# Altium schematic symbol library PLL Synthesizers and VCOs.SchLib: 183 symbols (part 13 of 15)
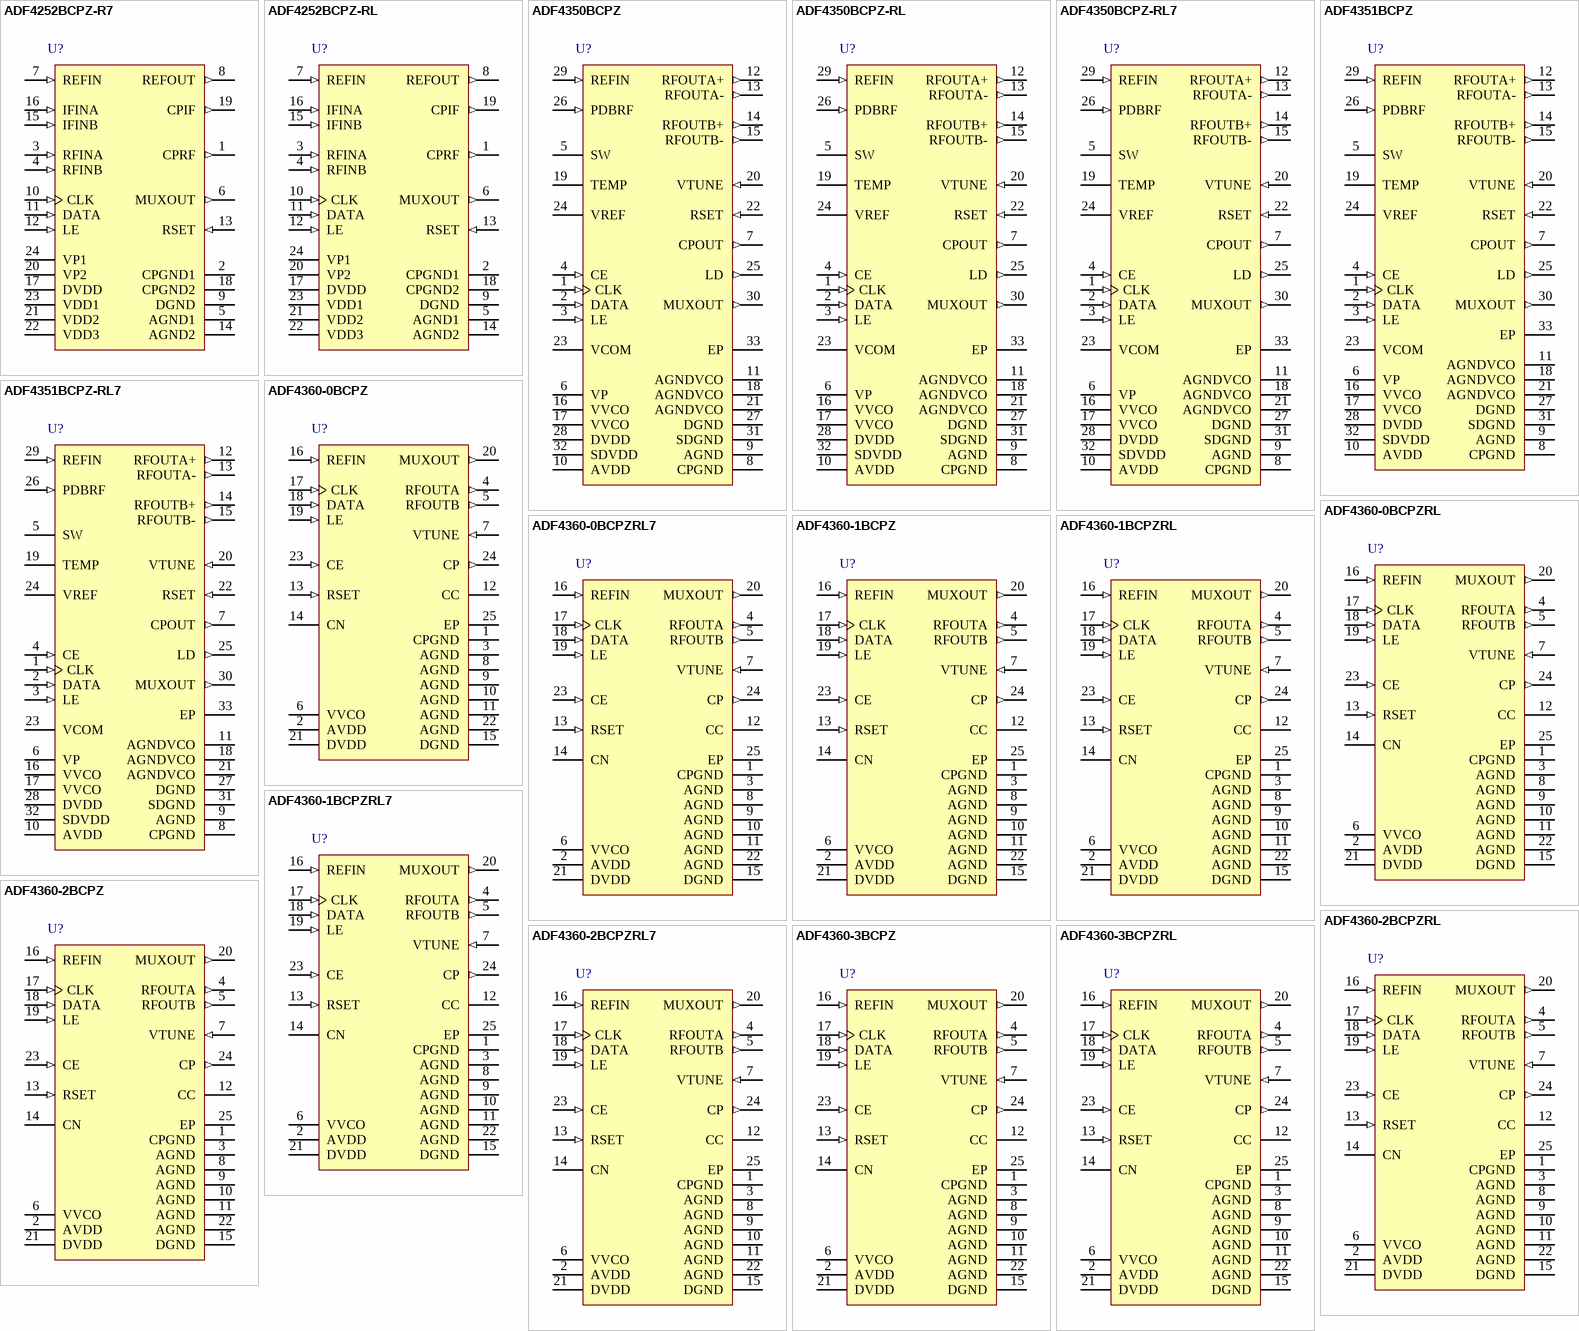
[diagram p20: symbols ADF4252BCPZ-R7 to ADF4360-3BCPZRL]

## ADF4360-0BCPZRL
designator U?
Integrated Synthesizer and VCO, CP-24-2, Pb-Free, 5000 Reel; Single/Dual: Single; Max RF Input (MHz): 2.725GHz; RF Prescalers: 16/17, 32/33, 8/9; Max REFin (MHz): 250MHz; Norm Phase Noise (dBc/Hz): -216dBc; Frequency Range: 2.45GHz-2.725GHz; Supply Current: 50mA; DatasheetVersion: Rev. A; PackageVersion: Jan-2005; PackageReference: CP-24-2; PackageDescription: 24-Lead Lead Frame Chip Scale Package [LFCSP_VQ]; Code_JEDEC: MO-220-VGGD-2; ComponentLink1Description: Manufacturer URL; ComponentLink1URL: www.analog.com; ComponentLink2Description: Datasheet; ComponentLink2URL: http://www.analog.com/static/imported-files/data_sheets/ADF4360-0.pdf; ComponentLink3Description: Package Specification; ComponentLink3URL: http://www.analog.com/static/imported-files/packages/588305704543880784658541CP_24_2.pdf
footprint ADI-CP-24-2_N (QFN, 24-Leads, Body 4x4mm, Pitch 0.5mm, Thermal Pad 2.3x2.3mm, IPC Medium Density)
footprint ADI-CP-24-2_L (QFN, 24-Leads, Body 4x4mm, Pitch 0.5mm, Thermal Pad 2.3x2.3mm, IPC High Density)
footprint ADI-CP-24-2_M (QFN, 24-Leads, Body 4x4mm, Pitch 0.5mm, Thermal Pad 2.3x2.3mm, IPC Low Density)
pins: 1 CPGND (power) "Charge Pump Ground. This is the ground return path for the charge pump.", 2 AVDD (power) "Analog Power Supply. This ranges from 3.0 V to 3.6 V. Decoupling capacitors to the analog ground plane should be placed as close as possible to this pin. [see datasheet]", 3 AGND (power) "Analog Ground. This is the ground return path of the prescaler and VCO.", 4 RFOUTA (out) "VCO Output. The output level is programmable from 0 dBm to -9 dBm. See the Output Matching section for a description of the various output stages.", 5 RFOUTB (out) "VCO Complementary Output. The output level is programmable from 0 dBm to -9 dBm. See the Output Matching section for a description of the various output stages.", 6 VVCO (power) "Power Supply for the VCO. This ranges from 3.0 V to 3.6 V. Decoupling capacitors to the analog ground plane should be placed as close as possible to this pin. [see datasheet]", 7 VTUNE (in) "Control Input to the VCO. This voltage determines the output frequency and is derived from filtering the CP output voltage.", 8 AGND (power) "Analog Ground. This is the ground return path of the prescaler and VCO.", 9 AGND (power) "Analog Ground. This is the ground return path of the prescaler and VCO.", 10 AGND (power) "Analog Ground. This is the ground return path of the prescaler and VCO.", 11 AGND (power) "Analog Ground. This is the ground return path of the prescaler and VCO.", 12 CC "Internal Compensation Node. This pin must be decoupled to ground with a 10 nF capacitor.", 13 RSET (in) "Connecting a resistor between this pin and CPGND sets the maximum charge pump output current for the synthesizer. The nominal voltage potential at the RSET pin is 0.6 V. [see datasheet]", 14 CN "Internal Compensation Node. This pin must be decoupled to VVCO with a 10 uF capacitor.", 15 DGND (power) "Digital Ground.", 16 REFIN (in) "Reference Input. This is a CMOS input with a nominal threshold of VDD/2 and a dc equivalent input resistance of 100 k ohm (see Figure 16). [see datasheet]", 17 CLK (in) "Serial Clock Input. This serial clock is used to clock in the serial data to the registers. The data is latched into the 24-bit shift register on the CLK rising edge. [see datasheet]", 18 DATA (in) "Serial Data Input. The serial data is loaded MSB first with the two LSBs being the control bits. This input is a high impedance CMOS input.", 19 LE (in) "Load Enable, CMOS Input. When LE goes high, the data stored in the shift registers is loaded into one of the four latches, and the relevant latch is selected using the control bits.", 20 MUXOUT (out) "This multiplexer output allows either the lock detect, the scaled RF, or the scaled reference frequency be accessed externally.", 21 DVDD (power) "Digital Power Supply. This ranges from 3.0 V to 3.6 V. Decoupling capacitors to the digital ground plane should be placed as close as possible to this pin. [see datasheet]", 22 AGND (power) "Analog Ground. This is the ground return path of the prescaler and VCO.", 23 CE (in) "Chip Enable. A logic low on this pin powers down the device and puts the charge pump into three-state mode. [see datasheet]", 24 CP (out) "Charge Pump Output. When enabled, this provides +/-ICP to the external loop filter, which in turn, drives the internal VCO.", 25 EP (power) "Exposed Pad."

## ADF4360-0BCPZRL7
designator U?
Integrated Synthesizer and VCO, CP-24-2, Pb-Free, 1500 Reel; Single/Dual: Single; Max RF Input (MHz): 2.725GHz; RF Prescalers: 16/17, 32/33, 8/9; Max REFin (MHz): 250MHz; Norm Phase Noise (dBc/Hz): -216dBc; Frequency Range: 2.45GHz-2.725GHz; Supply Current: 50mA; DatasheetVersion: Rev. A; PackageVersion: Jan-2005; PackageReference: CP-24-2; PackageDescription: 24-Lead Lead Frame Chip Scale Package [LFCSP_VQ]; Code_JEDEC: MO-220-VGGD-2; ComponentLink1Description: Manufacturer URL; ComponentLink1URL: www.analog.com; ComponentLink2Description: Datasheet; ComponentLink2URL: http://www.analog.com/static/imported-files/data_sheets/ADF4360-0.pdf; ComponentLink3Description: Package Specification; ComponentLink3URL: http://www.analog.com/static/imported-files/packages/588305704543880784658541CP_24_2.pdf
footprint ADI-CP-24-2_N (QFN, 24-Leads, Body 4x4mm, Pitch 0.5mm, Thermal Pad 2.3x2.3mm, IPC Medium Density)
footprint ADI-CP-24-2_L (QFN, 24-Leads, Body 4x4mm, Pitch 0.5mm, Thermal Pad 2.3x2.3mm, IPC High Density)
footprint ADI-CP-24-2_M (QFN, 24-Leads, Body 4x4mm, Pitch 0.5mm, Thermal Pad 2.3x2.3mm, IPC Low Density)
pins: 1 CPGND (power) "Charge Pump Ground. This is the ground return path for the charge pump.", 2 AVDD (power) "Analog Power Supply. This ranges from 3.0 V to 3.6 V. Decoupling capacitors to the analog ground plane should be placed as close as possible to this pin. [see datasheet]", 3 AGND (power) "Analog Ground. This is the ground return path of the prescaler and VCO.", 4 RFOUTA (out) "VCO Output. The output level is programmable from 0 dBm to -9 dBm. See the Output Matching section for a description of the various output stages.", 5 RFOUTB (out) "VCO Complementary Output. The output level is programmable from 0 dBm to -9 dBm. See the Output Matching section for a description of the various output stages.", 6 VVCO (power) "Power Supply for the VCO. This ranges from 3.0 V to 3.6 V. Decoupling capacitors to the analog ground plane should be placed as close as possible to this pin. [see datasheet]", 7 VTUNE (in) "Control Input to the VCO. This voltage determines the output frequency and is derived from filtering the CP output voltage.", 8 AGND (power) "Analog Ground. This is the ground return path of the prescaler and VCO.", 9 AGND (power) "Analog Ground. This is the ground return path of the prescaler and VCO.", 10 AGND (power) "Analog Ground. This is the ground return path of the prescaler and VCO.", 11 AGND (power) "Analog Ground. This is the ground return path of the prescaler and VCO.", 12 CC "Internal Compensation Node. This pin must be decoupled to ground with a 10 nF capacitor.", 13 RSET (in) "Connecting a resistor between this pin and CPGND sets the maximum charge pump output current for the synthesizer. The nominal voltage potential at the RSET pin is 0.6 V. [see datasheet]", 14 CN "Internal Compensation Node. This pin must be decoupled to VVCO with a 10 uF capacitor.", 15 DGND (power) "Digital Ground.", 16 REFIN (in) "Reference Input. This is a CMOS input with a nominal threshold of VDD/2 and a dc equivalent input resistance of 100 k ohm (see Figure 16). [see datasheet]", 17 CLK (in) "Serial Clock Input. This serial clock is used to clock in the serial data to the registers. The data is latched into the 24-bit shift register on the CLK rising edge. [see datasheet]", 18 DATA (in) "Serial Data Input. The serial data is loaded MSB first with the two LSBs being the control bits. This input is a high impedance CMOS input.", 19 LE (in) "Load Enable, CMOS Input. When LE goes high, the data stored in the shift registers is loaded into one of the four latches, and the relevant latch is selected using the control bits.", 20 MUXOUT (out) "This multiplexer output allows either the lock detect, the scaled RF, or the scaled reference frequency be accessed externally.", 21 DVDD (power) "Digital Power Supply. This ranges from 3.0 V to 3.6 V. Decoupling capacitors to the digital ground plane should be placed as close as possible to this pin. [see datasheet]", 22 AGND (power) "Analog Ground. This is the ground return path of the prescaler and VCO.", 23 CE (in) "Chip Enable. A logic low on this pin powers down the device and puts the charge pump into three-state mode. [see datasheet]", 24 CP (out) "Charge Pump Output. When enabled, this provides +/-ICP to the external loop filter, which in turn, drives the internal VCO.", 25 EP (power) "Exposed Pad."

## ADF4360-1BCPZ
designator U?
Integrated Synthesizer and VCO, CP-24-2, Pb-Free, 490 Tray; Single/Dual: Single; Max RF Input (MHz): 2.45GHz; RF Prescalers: 16/17, 32/33, 8/9; Max REFin (MHz): 250MHz; Norm Phase Noise (dBc/Hz): -216dBc; Frequency Range: 2050-2450 MHz; Supply Current: 48mA; DatasheetVersion: Rev. B; PackageVersion: Jan-2005; PackageReference: CP-24-2; PackageDescription: 24-Lead Lead Frame Chip Scale Package [LFCSP_VQ]; Code_JEDEC: MO-220-VGGD-2; ComponentLink1Description: Manufacturer URL; ComponentLink1URL: www.analog.com; ComponentLink2Description: Datasheet; ComponentLink2URL: http://www.analog.com/static/imported-files/data_sheets/ADF4360-1.pdf; ComponentLink3Description: Package Specification; ComponentLink3URL: http://www.analog.com/static/imported-files/packages/588305704543880784658541CP_24_2.pdf
footprint ADI-CP-24-2_N (QFN, 24-Leads, Body 4x4mm, Pitch 0.5mm, Thermal Pad 2.3x2.3mm, IPC Medium Density)
footprint ADI-CP-24-2_L (QFN, 24-Leads, Body 4x4mm, Pitch 0.5mm, Thermal Pad 2.3x2.3mm, IPC High Density)
footprint ADI-CP-24-2_M (QFN, 24-Leads, Body 4x4mm, Pitch 0.5mm, Thermal Pad 2.3x2.3mm, IPC Low Density)
pins: 1 CPGND (power) "Charge Pump Ground. This is the ground return path for the charge pump.", 2 AVDD (power) "Analog Power Supply. This ranges from 3.0 V to 3.6 V. Decoupling capacitors to the analog ground plane should be placed as close as possible to this pin. [see datasheet]", 3 AGND (power) "Analog Ground. This is the ground return path of the prescaler and VCO.", 4 RFOUTA (out) "VCO Output. The output level is programmable from -6 dBm to -13 dBm. See the Output Matching section for a description of the various output stages.", 5 RFOUTB (out) "VCO Complementary Output. The output level is programmable from -6 dBm to -13 dBm. See the Output Matching section for a description of the various output stages.", 6 VVCO (power) "Power Supply for the VCO. This ranges from 3.0 V to 3.6 V. Decoupling capacitors to the analog ground plane should be placed as close as possible to this pin. [see datasheet]", 7 VTUNE (in) "Control Input to the VCO. This voltage determines the output frequency and is derived from filtering the CP output voltage.", 8 AGND (power) "Analog Ground. This is the ground return path of the prescaler and VCO", 9 AGND (power) "Analog Ground. This is the ground return path of the prescaler and VCO", 10 AGND (power) "Analog Ground. This is the ground return path of the prescaler and VCO", 11 AGND (power) "Analog Ground. This is the ground return path of the prescaler and VCO", 12 CC "Internal Compensation Node. This pin must be decoupled to ground with a 10 nF capacitor.", 13 RSET (in) "Connecting a resistor between this pin and CPGND sets the maximum charge pump output current for the synthesizer.  [see datasheet]", 14 CN "Internal Compensation Node. This pin must be decoupled to VVCO with a 10 uF capacitor.", 15 DGND (power) "Digital Ground", 16 REFIN (in) "Reference Input. This is a CMOS input with a nominal threshold of VDD/2 and a dc equivalent input resistance of 100 k ohm. See Figure 10. [see datasheet]", 17 CLK (in) "Serial Clock Input. This serial clock is used to clock in the serial data to the registers. The data is latched into the 24-bit shift register on the CLK rising edge. [see datasheet]", 18 DATA (in) "Serial Data Input. The serial data is loaded MSB first with the two LSBs being the control bits. This input is a high impedance CMOS input.", 19 LE (in) "Load Enable, CMOS Input. When LE goes high, the data stored in the shift registers is loaded into one of the four latches, and the relevant latch is selected using the control bits.", 20 MUXOUT (out) "This multiplexer output allows either the lock detect, the scaled RF, or the scaled reference frequency to be accessed externally.", 21 DVDD (power) "Digital Power Supply. This ranges from 3.0 V to 3.6 V. Decoupling capacitors to the digital ground plane should be placed as close as possible to this pin. [see datasheet]", 22 AGND (power) "Analog Ground. This is the ground return path of the prescaler and VCO.", 23 CE (in) "Chip Enable. A logic low on this pin powers down the device and puts the charge pump into three-state mode. [see datasheet]", 24 CP (out) "Charge Pump Output. When enabled, this provides +/- ICP to the external loop filter, which in turn drives the internal VCO.", 25 EP (power) "Exposed pad"

## ADF4360-1BCPZRL
designator U?
Integrated Synthesizer and VCO, CP-24-2, Pb-Free, 5000 Reel; Single/Dual: Single; Max RF Input (MHz): 2.45GHz; RF Prescalers: 16/17, 32/33, 8/9; Max REFin (MHz): 250MHz; Norm Phase Noise (dBc/Hz): -216dBc; Frequency Range: 2050-2450 MHz; Supply Current: 48mA; DatasheetVersion: Rev. B; PackageVersion: Jan-2005; PackageReference: CP-24-2; PackageDescription: 24-Lead Lead Frame Chip Scale Package [LFCSP_VQ]; Code_JEDEC: MO-220-VGGD-2; ComponentLink1Description: Manufacturer URL; ComponentLink1URL: www.analog.com; ComponentLink2Description: Datasheet; ComponentLink2URL: http://www.analog.com/static/imported-files/data_sheets/ADF4360-1.pdf; ComponentLink3Description: Package Specification; ComponentLink3URL: http://www.analog.com/static/imported-files/packages/588305704543880784658541CP_24_2.pdf
footprint ADI-CP-24-2_N (QFN, 24-Leads, Body 4x4mm, Pitch 0.5mm, Thermal Pad 2.3x2.3mm, IPC Medium Density)
footprint ADI-CP-24-2_L (QFN, 24-Leads, Body 4x4mm, Pitch 0.5mm, Thermal Pad 2.3x2.3mm, IPC High Density)
footprint ADI-CP-24-2_M (QFN, 24-Leads, Body 4x4mm, Pitch 0.5mm, Thermal Pad 2.3x2.3mm, IPC Low Density)
pins: 1 CPGND (power) "Charge Pump Ground. This is the ground return path for the charge pump.", 2 AVDD (power) "Analog Power Supply. This ranges from 3.0 V to 3.6 V. Decoupling capacitors to the analog ground plane should be placed as close as possible to this pin. [see datasheet]", 3 AGND (power) "Analog Ground. This is the ground return path of the prescaler and VCO.", 4 RFOUTA (out) "VCO Output. The output level is programmable from -6 dBm to -13 dBm. See the Output Matching section for a description of the various output stages.", 5 RFOUTB (out) "VCO Complementary Output. The output level is programmable from -6 dBm to -13 dBm. See the Output Matching section for a description of the various output stages.", 6 VVCO (power) "Power Supply for the VCO. This ranges from 3.0 V to 3.6 V. Decoupling capacitors to the analog ground plane should be placed as close as possible to this pin. [see datasheet]", 7 VTUNE (in) "Control Input to the VCO. This voltage determines the output frequency and is derived from filtering the CP output voltage.", 8 AGND (power) "Analog Ground. This is the ground return path of the prescaler and VCO", 9 AGND (power) "Analog Ground. This is the ground return path of the prescaler and VCO", 10 AGND (power) "Analog Ground. This is the ground return path of the prescaler and VCO", 11 AGND (power) "Analog Ground. This is the ground return path of the prescaler and VCO", 12 CC "Internal Compensation Node. This pin must be decoupled to ground with a 10 nF capacitor.", 13 RSET (in) "Connecting a resistor between this pin and CPGND sets the maximum charge pump output current for the synthesizer.  [see datasheet]", 14 CN "Internal Compensation Node. This pin must be decoupled to VVCO with a 10 uF capacitor.", 15 DGND (power) "Digital Ground", 16 REFIN (in) "Reference Input. This is a CMOS input with a nominal threshold of VDD/2 and a dc equivalent input resistance of 100 k ohm. See Figure 10. [see datasheet]", 17 CLK (in) "Serial Clock Input. This serial clock is used to clock in the serial data to the registers. The data is latched into the 24-bit shift register on the CLK rising edge. [see datasheet]", 18 DATA (in) "Serial Data Input. The serial data is loaded MSB first with the two LSBs being the control bits. This input is a high impedance CMOS input.", 19 LE (in) "Load Enable, CMOS Input. When LE goes high, the data stored in the shift registers is loaded into one of the four latches, and the relevant latch is selected using the control bits.", 20 MUXOUT (out) "This multiplexer output allows either the lock detect, the scaled RF, or the scaled reference frequency to be accessed externally.", 21 DVDD (power) "Digital Power Supply. This ranges from 3.0 V to 3.6 V. Decoupling capacitors to the digital ground plane should be placed as close as possible to this pin. [see datasheet]", 22 AGND (power) "Analog Ground. This is the ground return path of the prescaler and VCO.", 23 CE (in) "Chip Enable. A logic low on this pin powers down the device and puts the charge pump into three-state mode. [see datasheet]", 24 CP (out) "Charge Pump Output. When enabled, this provides +/- ICP to the external loop filter, which in turn drives the internal VCO.", 25 EP (power) "Exposed pad"

## ADF4360-1BCPZRL7
designator U?
Integrated Synthesizer and VCO, CP-24-2, Pb-Free, 1500 Reel; Single/Dual: Single; Max RF Input (MHz): 2.45GHz; RF Prescalers: 16/17, 32/33, 8/9; Max REFin (MHz): 250MHz; Norm Phase Noise (dBc/Hz): -216dBc; Frequency Range: 2050-2450 MHz; Supply Current: 48mA; DatasheetVersion: Rev. B; PackageVersion: Jan-2005; PackageReference: CP-24-2; PackageDescription: 24-Lead Lead Frame Chip Scale Package [LFCSP_VQ]; Code_JEDEC: MO-220-VGGD-2; ComponentLink1Description: Manufacturer URL; ComponentLink1URL: www.analog.com; ComponentLink2Description: Datasheet; ComponentLink2URL: http://www.analog.com/static/imported-files/data_sheets/ADF4360-1.pdf; ComponentLink3Description: Package Specification; ComponentLink3URL: http://www.analog.com/static/imported-files/packages/588305704543880784658541CP_24_2.pdf
footprint ADI-CP-24-2_N (QFN, 24-Leads, Body 4x4mm, Pitch 0.5mm, Thermal Pad 2.3x2.3mm, IPC Medium Density)
footprint ADI-CP-24-2_L (QFN, 24-Leads, Body 4x4mm, Pitch 0.5mm, Thermal Pad 2.3x2.3mm, IPC High Density)
footprint ADI-CP-24-2_M (QFN, 24-Leads, Body 4x4mm, Pitch 0.5mm, Thermal Pad 2.3x2.3mm, IPC Low Density)
pins: 1 CPGND (power) "Charge Pump Ground. This is the ground return path for the charge pump.", 2 AVDD (power) "Analog Power Supply. This ranges from 3.0 V to 3.6 V. Decoupling capacitors to the analog ground plane should be placed as close as possible to this pin. [see datasheet]", 3 AGND (power) "Analog Ground. This is the ground return path of the prescaler and VCO.", 4 RFOUTA (out) "VCO Output. The output level is programmable from -6 dBm to -13 dBm. See the Output Matching section for a description of the various output stages.", 5 RFOUTB (out) "VCO Complementary Output. The output level is programmable from -6 dBm to -13 dBm. See the Output Matching section for a description of the various output stages.", 6 VVCO (power) "Power Supply for the VCO. This ranges from 3.0 V to 3.6 V. Decoupling capacitors to the analog ground plane should be placed as close as possible to this pin. [see datasheet]", 7 VTUNE (in) "Control Input to the VCO. This voltage determines the output frequency and is derived from filtering the CP output voltage.", 8 AGND (power) "Analog Ground. This is the ground return path of the prescaler and VCO", 9 AGND (power) "Analog Ground. This is the ground return path of the prescaler and VCO", 10 AGND (power) "Analog Ground. This is the ground return path of the prescaler and VCO", 11 AGND (power) "Analog Ground. This is the ground return path of the prescaler and VCO", 12 CC "Internal Compensation Node. This pin must be decoupled to ground with a 10 nF capacitor.", 13 RSET (in) "Connecting a resistor between this pin and CPGND sets the maximum charge pump output current for the synthesizer.  [see datasheet]", 14 CN "Internal Compensation Node. This pin must be decoupled to VVCO with a 10 uF capacitor.", 15 DGND (power) "Digital Ground", 16 REFIN (in) "Reference Input. This is a CMOS input with a nominal threshold of VDD/2 and a dc equivalent input resistance of 100 k ohm. See Figure 10. [see datasheet]", 17 CLK (in) "Serial Clock Input. This serial clock is used to clock in the serial data to the registers. The data is latched into the 24-bit shift register on the CLK rising edge. [see datasheet]", 18 DATA (in) "Serial Data Input. The serial data is loaded MSB first with the two LSBs being the control bits. This input is a high impedance CMOS input.", 19 LE (in) "Load Enable, CMOS Input. When LE goes high, the data stored in the shift registers is loaded into one of the four latches, and the relevant latch is selected using the control bits.", 20 MUXOUT (out) "This multiplexer output allows either the lock detect, the scaled RF, or the scaled reference frequency to be accessed externally.", 21 DVDD (power) "Digital Power Supply. This ranges from 3.0 V to 3.6 V. Decoupling capacitors to the digital ground plane should be placed as close as possible to this pin. [see datasheet]", 22 AGND (power) "Analog Ground. This is the ground return path of the prescaler and VCO.", 23 CE (in) "Chip Enable. A logic low on this pin powers down the device and puts the charge pump into three-state mode. [see datasheet]", 24 CP (out) "Charge Pump Output. When enabled, this provides +/- ICP to the external loop filter, which in turn drives the internal VCO.", 25 EP (power) "Exposed pad"

## ADF4360-2BCPZ
designator U?
Integrated Synthesizer and VCO, CP-24-2, Pb-Free, 490 Tray; Single/Dual: Single; Max RF Input (MHz): 2.17GHz; RF Prescalers: 16/17, 32/33, 8/9; Max REFin (MHz): 250MHz; Norm Phase Noise (dBc/Hz): -216dBc; Frequency Range: 1.85GHz-2.17GHz; Supply Current: 48mA; DatasheetVersion: Rev. B; PackageVersion: Jan-2005; PackageReference: CP-24-2; PackageDescription: 24-Lead Lead Frame Chip Scale Package [LFCSP_VQ]; Code_JEDEC: MO-220-VGGD-2; ComponentLink1Description: Manufacturer URL; ComponentLink1URL: www.analog.com; ComponentLink2Description: Datasheet; ComponentLink2URL: http://www.analog.com/static/imported-files/data_sheets/ADF4360-2.pdf; ComponentLink3Description: Package Specification; ComponentLink3URL: http://www.analog.com/static/imported-files/packages/588305704543880784658541CP_24_2.pdf
footprint ADI-CP-24-2_N (QFN, 24-Leads, Body 4x4mm, Pitch 0.5mm, Thermal Pad 2.3x2.3mm, IPC Medium Density)
footprint ADI-CP-24-2_L (QFN, 24-Leads, Body 4x4mm, Pitch 0.5mm, Thermal Pad 2.3x2.3mm, IPC High Density)
footprint ADI-CP-24-2_M (QFN, 24-Leads, Body 4x4mm, Pitch 0.5mm, Thermal Pad 2.3x2.3mm, IPC Low Density)
pins: 1 CPGND (power) "Charge Pump Ground. This is the ground return path for the charge pump.", 2 AVDD (power) "Analog Power Supply. This ranges from 3.0 V to 3.6 V. Decoupling capacitors to the analog ground plane", 3 AGND (power) "Analog Ground. This is the ground return path of the prescaler and VCO.", 4 RFOUTA (out) "VCO Output. The output level is programmable from -6 dBm to -13 dBm. See the Output Matching section for a description of the various output stages.", 5 RFOUTB (out) "VCO Complementary Output. The output level is programmable from -6 dBm to -13 dBm. See the Output Matching section for a description of the various output stages.", 6 VVCO (power) "Power Supply for the VCO. This ranges from 3.0 V to 3.6 V. Decoupling capacitors to the analog ground plane should be placed as close as possible to this pin. [see datasheet]", 7 VTUNE (in) "Control Input to the VCO. This voltage determines the output frequency and is derived from filtering the CP output voltage.", 8 AGND (power) "Analog Ground. This is the ground return path of the prescaler and VCO.", 9 AGND (power) "Analog Ground. This is the ground return path of the prescaler and VCO.", 10 AGND (power) "Analog Ground. This is the ground return path of the prescaler and VCO.", 11 AGND (power) "Analog Ground. This is the ground return path of the prescaler and VCO.", 12 CC "Internal Compensation Node. This pin must be decoupled to ground with a 10 nF capacitor.", 13 RSET (in) "Connecting a resistor between this pin and CPGND sets the maximum charge pump output current for the synthesizer. The nominal voltage potential at the RSET pin is 0.6 V. [see datasheet]", 14 CN "Internal Compensation Node. This pin must be decoupled to VVCO with a 10 uF capacitor.", 15 DGND (power) "Digital Ground.", 16 REFIN (in) "Reference Input. This is a CMOS input with a nominal threshold of VDD/2 and a dc equivalent input resistance of 100 k ohm. See Figure 10. [see datasheet]", 17 CLK (in) "Serial Clock Input. This serial clock is used to clock in the serial data to the registers. The data is latched into the 24-bit shift register on the CLK rising edge. [see datasheet]", 18 DATA (in) "Serial Data Input. The serial data is loaded MSB first with the two LSBs being the control bits. This input is a high impedance CMOS input.", 19 LE (in) "Load Enable, CMOS Input. When LE goes high, the data stored in the shift registers is loaded into one of the four latches, and the relevant latch is selected using the control bits.", 20 MUXOUT (out) "This multiplexer output allows either the lock detect, the scaled RF, or the scaled reference frequency to be accessed externally.", 21 DVDD (power) "Digital Power Supply. This ranges from 3.0 V to 3.6 V. Decoupling capacitors to the digital ground plane should be placed as close as possible to this pin. [see datasheet]", 22 AGND (power) "Analog Ground. This is the ground return path of the prescaler and VCO.", 23 CE (in) "Chip Enable. A logic low on this pin powers down the device and puts the charge pump into three-state mode. [see datasheet]", 24 CP (out) "Charge Pump Output. When enabled, this provides +/- ICP to the external loop filter, which in turn, drives the internal VCO.", 25 EP (power) "Exposed Pad."

## ADF4360-2BCPZRL
designator U?
Integrated Synthesizer and VCO, CP-24-2, Pb-Free, 5000 Reel; Single/Dual: Single; Max RF Input (MHz): 2.17GHz; RF Prescalers: 16/17, 32/33, 8/9; Max REFin (MHz): 250MHz; Norm Phase Noise (dBc/Hz): -216dBc; Frequency Range: 1.85GHz-2.17GHz; Supply Current: 48mA; DatasheetVersion: Rev. B; PackageVersion: Jan-2005; PackageReference: CP-24-2; PackageDescription: 24-Lead Lead Frame Chip Scale Package [LFCSP_VQ]; Code_JEDEC: MO-220-VGGD-2; ComponentLink1Description: Manufacturer URL; ComponentLink1URL: www.analog.com; ComponentLink2Description: Datasheet; ComponentLink2URL: http://www.analog.com/static/imported-files/data_sheets/ADF4360-2.pdf; ComponentLink3Description: Package Specification; ComponentLink3URL: http://www.analog.com/static/imported-files/packages/588305704543880784658541CP_24_2.pdf
footprint ADI-CP-24-2_N (QFN, 24-Leads, Body 4x4mm, Pitch 0.5mm, Thermal Pad 2.3x2.3mm, IPC Medium Density)
footprint ADI-CP-24-2_L (QFN, 24-Leads, Body 4x4mm, Pitch 0.5mm, Thermal Pad 2.3x2.3mm, IPC High Density)
footprint ADI-CP-24-2_M (QFN, 24-Leads, Body 4x4mm, Pitch 0.5mm, Thermal Pad 2.3x2.3mm, IPC Low Density)
pins: 1 CPGND (power) "Charge Pump Ground. This is the ground return path for the charge pump.", 2 AVDD (power) "Analog Power Supply. This ranges from 3.0 V to 3.6 V. Decoupling capacitors to the analog ground plane", 3 AGND (power) "Analog Ground. This is the ground return path of the prescaler and VCO.", 4 RFOUTA (out) "VCO Output. The output level is programmable from -6 dBm to -13 dBm. See the Output Matching section for a description of the various output stages.", 5 RFOUTB (out) "VCO Complementary Output. The output level is programmable from -6 dBm to -13 dBm. See the Output Matching section for a description of the various output stages.", 6 VVCO (power) "Power Supply for the VCO. This ranges from 3.0 V to 3.6 V. Decoupling capacitors to the analog ground plane should be placed as close as possible to this pin. [see datasheet]", 7 VTUNE (in) "Control Input to the VCO. This voltage determines the output frequency and is derived from filtering the CP output voltage.", 8 AGND (power) "Analog Ground. This is the ground return path of the prescaler and VCO.", 9 AGND (power) "Analog Ground. This is the ground return path of the prescaler and VCO.", 10 AGND (power) "Analog Ground. This is the ground return path of the prescaler and VCO.", 11 AGND (power) "Analog Ground. This is the ground return path of the prescaler and VCO.", 12 CC "Internal Compensation Node. This pin must be decoupled to ground with a 10 nF capacitor.", 13 RSET (in) "Connecting a resistor between this pin and CPGND sets the maximum charge pump output current for the synthesizer. The nominal voltage potential at the RSET pin is 0.6 V. [see datasheet]", 14 CN "Internal Compensation Node. This pin must be decoupled to VVCO with a 10 uF capacitor.", 15 DGND (power) "Digital Ground.", 16 REFIN (in) "Reference Input. This is a CMOS input with a nominal threshold of VDD/2 and a dc equivalent input resistance of 100 k ohm. See Figure 10. [see datasheet]", 17 CLK (in) "Serial Clock Input. This serial clock is used to clock in the serial data to the registers. The data is latched into the 24-bit shift register on the CLK rising edge. [see datasheet]", 18 DATA (in) "Serial Data Input. The serial data is loaded MSB first with the two LSBs being the control bits. This input is a high impedance CMOS input.", 19 LE (in) "Load Enable, CMOS Input. When LE goes high, the data stored in the shift registers is loaded into one of the four latches, and the relevant latch is selected using the control bits.", 20 MUXOUT (out) "This multiplexer output allows either the lock detect, the scaled RF, or the scaled reference frequency to be accessed externally.", 21 DVDD (power) "Digital Power Supply. This ranges from 3.0 V to 3.6 V. Decoupling capacitors to the digital ground plane should be placed as close as possible to this pin. [see datasheet]", 22 AGND (power) "Analog Ground. This is the ground return path of the prescaler and VCO.", 23 CE (in) "Chip Enable. A logic low on this pin powers down the device and puts the charge pump into three-state mode. [see datasheet]", 24 CP (out) "Charge Pump Output. When enabled, this provides +/- ICP to the external loop filter, which in turn, drives the internal VCO.", 25 EP (power) "Exposed Pad."

## ADF4360-2BCPZRL7
designator U?
Integrated Synthesizer and VCO, CP-24-2, Pb-Free, 1500 Reel; Single/Dual: Single; Max RF Input (MHz): 2.17GHz; RF Prescalers: 16/17, 32/33, 8/9; Max REFin (MHz): 250MHz; Norm Phase Noise (dBc/Hz): -216dBc; Frequency Range: 1.85GHz-2.17GHz; Supply Current: 48mA; DatasheetVersion: Rev. B; PackageVersion: Jan-2005; PackageReference: CP-24-2; PackageDescription: 24-Lead Lead Frame Chip Scale Package [LFCSP_VQ]; Code_JEDEC: MO-220-VGGD-2; ComponentLink1Description: Manufacturer URL; ComponentLink1URL: www.analog.com; ComponentLink2Description: Datasheet; ComponentLink2URL: http://www.analog.com/static/imported-files/data_sheets/ADF4360-2.pdf; ComponentLink3Description: Package Specification; ComponentLink3URL: http://www.analog.com/static/imported-files/packages/588305704543880784658541CP_24_2.pdf
footprint ADI-CP-24-2_N (QFN, 24-Leads, Body 4x4mm, Pitch 0.5mm, Thermal Pad 2.3x2.3mm, IPC Medium Density)
footprint ADI-CP-24-2_L (QFN, 24-Leads, Body 4x4mm, Pitch 0.5mm, Thermal Pad 2.3x2.3mm, IPC High Density)
footprint ADI-CP-24-2_M (QFN, 24-Leads, Body 4x4mm, Pitch 0.5mm, Thermal Pad 2.3x2.3mm, IPC Low Density)
pins: 1 CPGND (power) "Charge Pump Ground. This is the ground return path for the charge pump.", 2 AVDD (power) "Analog Power Supply. This ranges from 3.0 V to 3.6 V. Decoupling capacitors to the analog ground plane", 3 AGND (power) "Analog Ground. This is the ground return path of the prescaler and VCO.", 4 RFOUTA (out) "VCO Output. The output level is programmable from -6 dBm to -13 dBm. See the Output Matching section for a description of the various output stages.", 5 RFOUTB (out) "VCO Complementary Output. The output level is programmable from -6 dBm to -13 dBm. See the Output Matching section for a description of the various output stages.", 6 VVCO (power) "Power Supply for the VCO. This ranges from 3.0 V to 3.6 V. Decoupling capacitors to the analog ground plane should be placed as close as possible to this pin. [see datasheet]", 7 VTUNE (in) "Control Input to the VCO. This voltage determines the output frequency and is derived from filtering the CP output voltage.", 8 AGND (power) "Analog Ground. This is the ground return path of the prescaler and VCO.", 9 AGND (power) "Analog Ground. This is the ground return path of the prescaler and VCO.", 10 AGND (power) "Analog Ground. This is the ground return path of the prescaler and VCO.", 11 AGND (power) "Analog Ground. This is the ground return path of the prescaler and VCO.", 12 CC "Internal Compensation Node. This pin must be decoupled to ground with a 10 nF capacitor.", 13 RSET (in) "Connecting a resistor between this pin and CPGND sets the maximum charge pump output current for the synthesizer. The nominal voltage potential at the RSET pin is 0.6 V. [see datasheet]", 14 CN "Internal Compensation Node. This pin must be decoupled to VVCO with a 10 uF capacitor.", 15 DGND (power) "Digital Ground.", 16 REFIN (in) "Reference Input. This is a CMOS input with a nominal threshold of VDD/2 and a dc equivalent input resistance of 100 k ohm. See Figure 10. [see datasheet]", 17 CLK (in) "Serial Clock Input. This serial clock is used to clock in the serial data to the registers. The data is latched into the 24-bit shift register on the CLK rising edge. [see datasheet]", 18 DATA (in) "Serial Data Input. The serial data is loaded MSB first with the two LSBs being the control bits. This input is a high impedance CMOS input.", 19 LE (in) "Load Enable, CMOS Input. When LE goes high, the data stored in the shift registers is loaded into one of the four latches, and the relevant latch is selected using the control bits.", 20 MUXOUT (out) "This multiplexer output allows either the lock detect, the scaled RF, or the scaled reference frequency to be accessed externally.", 21 DVDD (power) "Digital Power Supply. This ranges from 3.0 V to 3.6 V. Decoupling capacitors to the digital ground plane should be placed as close as possible to this pin. [see datasheet]", 22 AGND (power) "Analog Ground. This is the ground return path of the prescaler and VCO.", 23 CE (in) "Chip Enable. A logic low on this pin powers down the device and puts the charge pump into three-state mode. [see datasheet]", 24 CP (out) "Charge Pump Output. When enabled, this provides +/- ICP to the external loop filter, which in turn, drives the internal VCO.", 25 EP (power) "Exposed Pad."

## ADF4360-3BCPZ
designator U?
Integrated Synthesizer and VCO, CP-24-2, Pb-Free, 490 Tray; Single/Dual: Single; Max RF Input (MHz): 1.95GHz; RF Prescalers: 16/17, 32/33, 8/9; Max REFin (MHz): 250MHz; Norm Phase Noise (dBc/Hz): -216dBc; Frequency Range: 1600-1950 MHz; Supply Current: 48mA; DatasheetVersion: Rev. B; PackageVersion: Jan-2005; PackageReference: CP-24-2; PackageDescription: 24-Lead Lead Frame Chip Scale Package [LFCSP_VQ]; Code_JEDEC: MO-220-VGGD-2; ComponentLink1Description: Manufacturer URL; ComponentLink1URL: www.analog.com; ComponentLink2Description: Datasheet; ComponentLink2URL: http://www.analog.com/static/imported-files/data_sheets/ADF4360-3.pdf; ComponentLink3Description: Package Specification; ComponentLink3URL: http://www.analog.com/static/imported-files/packages/588305704543880784658541CP_24_2.pdf
footprint ADI-CP-24-2_N (QFN, 24-Leads, Body 4x4mm, Pitch 0.5mm, Thermal Pad 2.3x2.3mm, IPC Medium Density)
footprint ADI-CP-24-2_L (QFN, 24-Leads, Body 4x4mm, Pitch 0.5mm, Thermal Pad 2.3x2.3mm, IPC High Density)
footprint ADI-CP-24-2_M (QFN, 24-Leads, Body 4x4mm, Pitch 0.5mm, Thermal Pad 2.3x2.3mm, IPC Low Density)
pins: 1 CPGND (power) "Charge Pump Ground. This is the ground return path for the charge pump.", 2 AVDD (power) "Analog Power Supply. This ranges from 3.0 V to 3.6 V. Decoupling capacitors to the analog ground plane should be placed as close as possible to this pin. [see datasheet]", 3 AGND (power) "Analog Ground. This is the ground return path of the prescaler and VCO.", 4 RFOUTA (out) "VCO Output. The output level is programmable from -3 dBm to -12 dBm. See the Output Matching section for a description of the various output stages.", 5 RFOUTB (out) "VCO Complementary Output. The output level is programmable from -3 dBm to -12 dBm. See Output Matching section for a description of the various output stages.", 6 VVCO (power) "Power Supply for the VCO. This ranges from 3.0 V to 3.6 V. Decoupling capacitors to the analog ground plane should be placed as close as possible to this pin. [see datasheet]", 7 VTUNE (in) "Control Input to the VCO. This voltage determines the output frequency and is derived from filtering the CP output voltage.", 8 AGND (power) "Analog Ground. This is the ground return path of the prescaler and VCO.", 9 AGND (power) "Analog Ground. This is the ground return path of the prescaler and VCO.", 10 AGND (power) "Analog Ground. This is the ground return path of the prescaler and VCO.", 11 AGND (power) "Analog Ground. This is the ground return path of the prescaler and VCO.", 12 CC "Internal Compensation Node. This pin must be decoupled to ground with a 10 nF capacitor.", 13 RSET (in) "Connecting a resistor between this pin and CPGND sets the maximum charge pump output current for the synthesizer. The nominal voltage potential at the RSET pin is 0.6 V. [see datasheet]", 14 CN "Internal Compensation Node. This pin must be decoupled to VVCO with a 10 uF capacitor.", 15 DGND (power) "Digital Ground.", 16 REFIN (in) "Reference Input. This is a CMOS input with a nominal threshold of VDD/2 and a dc equivalent input resistance of 100 k ohm. See Figure 10. [see datasheet]", 17 CLK (in) "Serial Clock Input. This serial clock is used to clock in the serial data to the registers. The data is latched into the 24-bit shift register on the CLK rising edge. [see datasheet]", 18 DATA (in) "Serial Data Input. The serial data is loaded MSB first with the two LSBs being the control bits. This input is a high impedance CMOS input.", 19 LE (in) "Load Enable, CMOS Input. When LE goes high, the data stored in the shift registers is loaded into one of the four latches, and the relevant latch is selected using the control bits.", 20 MUXOUT (out) "This multiplexer output allows either the lock detect, the scaled RF, or the scaled reference frequency to be accessed externally.", 21 DVDD (power) "Digital Power Supply. This ranges from 3.0 V to 3.6 V. Decoupling capacitors to the digital ground plane should be placed as close as possible to this pin. [see datasheet]", 22 AGND (power) "Analog Ground. This is the ground return path of the prescaler and VCO.", 23 CE (in) "Chip Enable. A logic low on this pin powers down the device and puts the charge pump into three-state mode. [see datasheet]", 24 CP (out) "Charge Pump Output. When enabled, this provides +/- ICP to the external loop filter, which in turn drives the internal VCO.", 25 EP (power) "Exposed Pad."

## ADF4360-3BCPZRL
designator U?
Integrated Synthesizer and VCO, CP-24-2, Pb-Free, 5000 Reel; Single/Dual: Single; Max RF Input (MHz): 1.95GHz; RF Prescalers: 16/17, 32/33, 8/9; Max REFin (MHz): 250MHz; Norm Phase Noise (dBc/Hz): -216dBc; Frequency Range: 1600-1950 MHz; Supply Current: 48mA; DatasheetVersion: Rev. B; PackageVersion: Jan-2005; PackageReference: CP-24-2; PackageDescription: 24-Lead Lead Frame Chip Scale Package [LFCSP_VQ]; Code_JEDEC: MO-220-VGGD-2; ComponentLink1Description: Manufacturer URL; ComponentLink1URL: www.analog.com; ComponentLink2Description: Datasheet; ComponentLink2URL: http://www.analog.com/static/imported-files/data_sheets/ADF4360-3.pdf; ComponentLink3Description: Package Specification; ComponentLink3URL: http://www.analog.com/static/imported-files/packages/588305704543880784658541CP_24_2.pdf
footprint ADI-CP-24-2_N (QFN, 24-Leads, Body 4x4mm, Pitch 0.5mm, Thermal Pad 2.3x2.3mm, IPC Medium Density)
footprint ADI-CP-24-2_L (QFN, 24-Leads, Body 4x4mm, Pitch 0.5mm, Thermal Pad 2.3x2.3mm, IPC High Density)
footprint ADI-CP-24-2_M (QFN, 24-Leads, Body 4x4mm, Pitch 0.5mm, Thermal Pad 2.3x2.3mm, IPC Low Density)
pins: 1 CPGND (power) "Charge Pump Ground. This is the ground return path for the charge pump.", 2 AVDD (power) "Analog Power Supply. This ranges from 3.0 V to 3.6 V. Decoupling capacitors to the analog ground plane should be placed as close as possible to this pin. [see datasheet]", 3 AGND (power) "Analog Ground. This is the ground return path of the prescaler and VCO.", 4 RFOUTA (out) "VCO Output. The output level is programmable from -3 dBm to -12 dBm. See the Output Matching section for a description of the various output stages.", 5 RFOUTB (out) "VCO Complementary Output. The output level is programmable from -3 dBm to -12 dBm. See Output Matching section for a description of the various output stages.", 6 VVCO (power) "Power Supply for the VCO. This ranges from 3.0 V to 3.6 V. Decoupling capacitors to the analog ground plane should be placed as close as possible to this pin. [see datasheet]", 7 VTUNE (in) "Control Input to the VCO. This voltage determines the output frequency and is derived from filtering the CP output voltage.", 8 AGND (power) "Analog Ground. This is the ground return path of the prescaler and VCO.", 9 AGND (power) "Analog Ground. This is the ground return path of the prescaler and VCO.", 10 AGND (power) "Analog Ground. This is the ground return path of the prescaler and VCO.", 11 AGND (power) "Analog Ground. This is the ground return path of the prescaler and VCO.", 12 CC "Internal Compensation Node. This pin must be decoupled to ground with a 10 nF capacitor.", 13 RSET (in) "Connecting a resistor between this pin and CPGND sets the maximum charge pump output current for the synthesizer. The nominal voltage potential at the RSET pin is 0.6 V. [see datasheet]", 14 CN "Internal Compensation Node. This pin must be decoupled to VVCO with a 10 uF capacitor.", 15 DGND (power) "Digital Ground.", 16 REFIN (in) "Reference Input. This is a CMOS input with a nominal threshold of VDD/2 and a dc equivalent input resistance of 100 k ohm. See Figure 10. [see datasheet]", 17 CLK (in) "Serial Clock Input. This serial clock is used to clock in the serial data to the registers. The data is latched into the 24-bit shift register on the CLK rising edge. [see datasheet]", 18 DATA (in) "Serial Data Input. The serial data is loaded MSB first with the two LSBs being the control bits. This input is a high impedance CMOS input.", 19 LE (in) "Load Enable, CMOS Input. When LE goes high, the data stored in the shift registers is loaded into one of the four latches, and the relevant latch is selected using the control bits.", 20 MUXOUT (out) "This multiplexer output allows either the lock detect, the scaled RF, or the scaled reference frequency to be accessed externally.", 21 DVDD (power) "Digital Power Supply. This ranges from 3.0 V to 3.6 V. Decoupling capacitors to the digital ground plane should be placed as close as possible to this pin. [see datasheet]", 22 AGND (power) "Analog Ground. This is the ground return path of the prescaler and VCO.", 23 CE (in) "Chip Enable. A logic low on this pin powers down the device and puts the charge pump into three-state mode. [see datasheet]", 24 CP (out) "Charge Pump Output. When enabled, this provides +/- ICP to the external loop filter, which in turn drives the internal VCO.", 25 EP (power) "Exposed Pad."

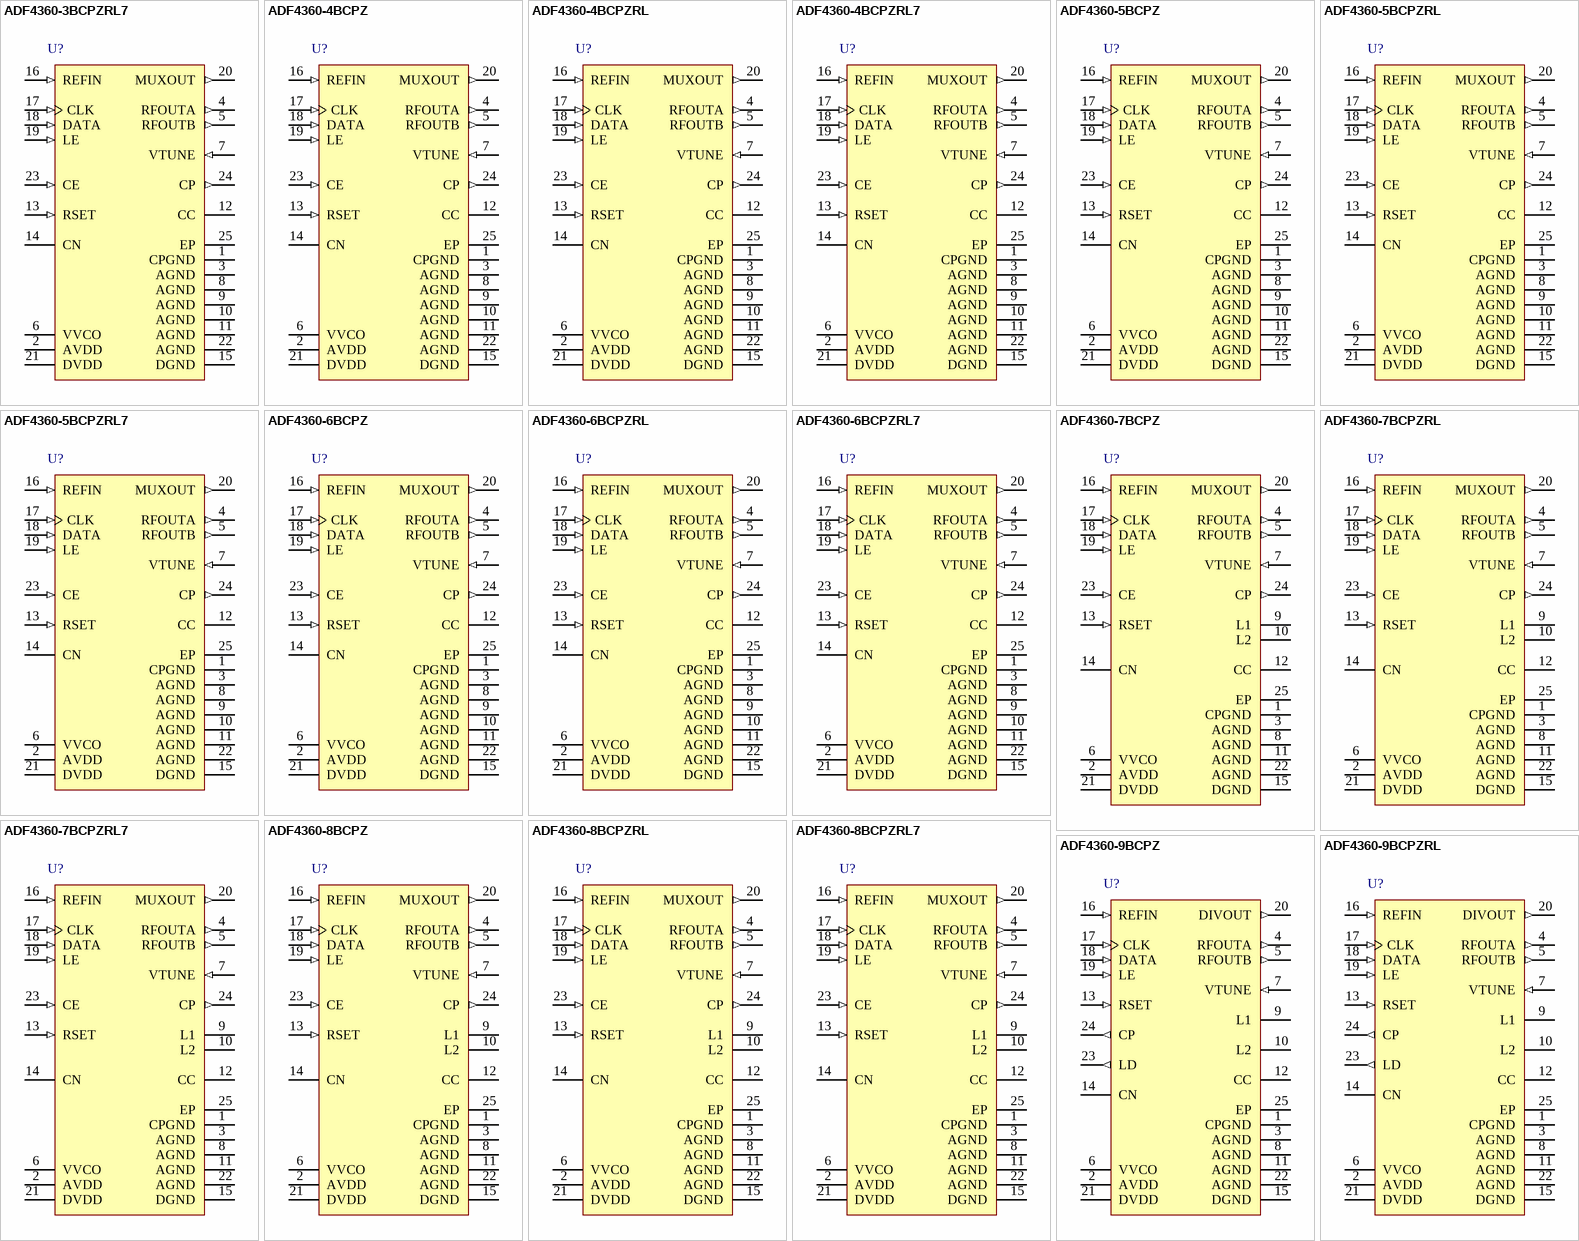
[diagram p7: symbols ADF4360-3BCPZRL7 to ADF4360-9BCPZRL]

## ADF4360-3BCPZRL7
designator U?
Integrated Synthesizer and VCO, CP-24-2, Pb-Free, 1500 Reel; Single/Dual: Single; Max RF Input (MHz): 1.95GHz; RF Prescalers: 16/17, 32/33, 8/9; Max REFin (MHz): 250MHz; Norm Phase Noise (dBc/Hz): -216dBc; Frequency Range: 1600-1950 MHz; Supply Current: 48mA; DatasheetVersion: Rev. B; PackageVersion: Jan-2005; PackageReference: CP-24-2; PackageDescription: 24-Lead Lead Frame Chip Scale Package [LFCSP_VQ]; Code_JEDEC: MO-220-VGGD-2; ComponentLink1Description: Manufacturer URL; ComponentLink1URL: www.analog.com; ComponentLink2Description: Datasheet; ComponentLink2URL: http://www.analog.com/static/imported-files/data_sheets/ADF4360-3.pdf; ComponentLink3Description: Package Specification; ComponentLink3URL: http://www.analog.com/static/imported-files/packages/588305704543880784658541CP_24_2.pdf
footprint ADI-CP-24-2_N (QFN, 24-Leads, Body 4x4mm, Pitch 0.5mm, Thermal Pad 2.3x2.3mm, IPC Medium Density)
footprint ADI-CP-24-2_L (QFN, 24-Leads, Body 4x4mm, Pitch 0.5mm, Thermal Pad 2.3x2.3mm, IPC High Density)
footprint ADI-CP-24-2_M (QFN, 24-Leads, Body 4x4mm, Pitch 0.5mm, Thermal Pad 2.3x2.3mm, IPC Low Density)
pins: 1 CPGND (power) "Charge Pump Ground. This is the ground return path for the charge pump.", 2 AVDD (power) "Analog Power Supply. This ranges from 3.0 V to 3.6 V. Decoupling capacitors to the analog ground plane should be placed as close as possible to this pin. [see datasheet]", 3 AGND (power) "Analog Ground. This is the ground return path of the prescaler and VCO.", 4 RFOUTA (out) "VCO Output. The output level is programmable from -3 dBm to -12 dBm. See the Output Matching section for a description of the various output stages.", 5 RFOUTB (out) "VCO Complementary Output. The output level is programmable from -3 dBm to -12 dBm. See Output Matching section for a description of the various output stages.", 6 VVCO (power) "Power Supply for the VCO. This ranges from 3.0 V to 3.6 V. Decoupling capacitors to the analog ground plane should be placed as close as possible to this pin. [see datasheet]", 7 VTUNE (in) "Control Input to the VCO. This voltage determines the output frequency and is derived from filtering the CP output voltage.", 8 AGND (power) "Analog Ground. This is the ground return path of the prescaler and VCO.", 9 AGND (power) "Analog Ground. This is the ground return path of the prescaler and VCO.", 10 AGND (power) "Analog Ground. This is the ground return path of the prescaler and VCO.", 11 AGND (power) "Analog Ground. This is the ground return path of the prescaler and VCO.", 12 CC "Internal Compensation Node. This pin must be decoupled to ground with a 10 nF capacitor.", 13 RSET (in) "Connecting a resistor between this pin and CPGND sets the maximum charge pump output current for the synthesizer. The nominal voltage potential at the RSET pin is 0.6 V. [see datasheet]", 14 CN "Internal Compensation Node. This pin must be decoupled to VVCO with a 10 uF capacitor.", 15 DGND (power) "Digital Ground.", 16 REFIN (in) "Reference Input. This is a CMOS input with a nominal threshold of VDD/2 and a dc equivalent input resistance of 100 k ohm. See Figure 10. [see datasheet]", 17 CLK (in) "Serial Clock Input. This serial clock is used to clock in the serial data to the registers. The data is latched into the 24-bit shift register on the CLK rising edge. [see datasheet]", 18 DATA (in) "Serial Data Input. The serial data is loaded MSB first with the two LSBs being the control bits. This input is a high impedance CMOS input.", 19 LE (in) "Load Enable, CMOS Input. When LE goes high, the data stored in the shift registers is loaded into one of the four latches, and the relevant latch is selected using the control bits.", 20 MUXOUT (out) "This multiplexer output allows either the lock detect, the scaled RF, or the scaled reference frequency to be accessed externally.", 21 DVDD (power) "Digital Power Supply. This ranges from 3.0 V to 3.6 V. Decoupling capacitors to the digital ground plane should be placed as close as possible to this pin. [see datasheet]", 22 AGND (power) "Analog Ground. This is the ground return path of the prescaler and VCO.", 23 CE (in) "Chip Enable. A logic low on this pin powers down the device and puts the charge pump into three-state mode. [see datasheet]", 24 CP (out) "Charge Pump Output. When enabled, this provides +/- ICP to the external loop filter, which in turn drives the internal VCO.", 25 EP (power) "Exposed Pad."